# EAGLE library part MODULE_ESP32_MYV (library ESP32-DEVKITC-32D)
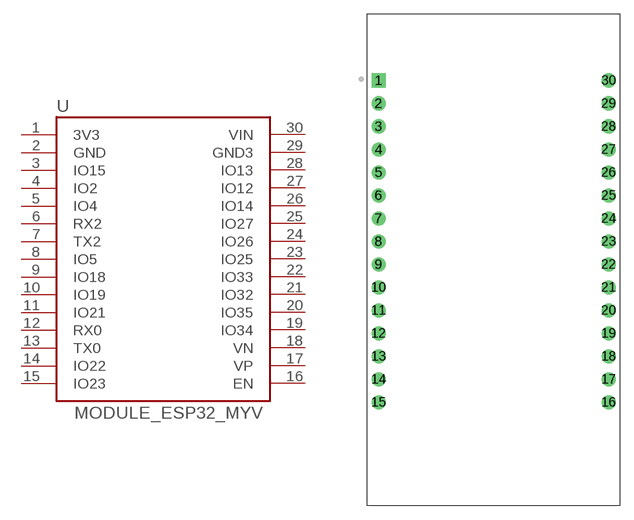
[diagram p0: symbol with the pads of MODULE_ESP32-DEVKITC-MYV; footprint MODULE_ESP32-DEVKITC-MYV]

Designator prefix -

## MODULE_ESP32_MYV  [MODULE_ESP32-DEVKITC-MYV]
1  3V3  pwr
2  GND  in
3  IO15  in
4  IO2  in
5  IO4
6  RX2
7  TX2
8  IO5
9  IO18
10  IO19
11  IO21
12  RX0
13  TX0
14  IO22
15  IO23
16  EN
17  VP
18  VN
19  IO34
20  IO35
21  IO32
22  IO33
23  IO25
24  IO26
25  IO27
26  IO14  in
27  IO12
28  IO13
29  GND3  pwr
30  VIN  pwr

## Footprint MODULE_ESP32-DEVKITC-MYV (pad centres in mm)
HH
drill 1.04 square: 1 -12.7,19.76
drill 1.04: 2 -12.7,17.22; 3 -12.7,14.68; 4 -12.7,12.14; 5 -12.7,9.6; 6 -12.7,7.06; 7 -12.7,4.52; 8 -12.7,1.98; 9 -12.7,-0.56; 10 -12.7,-3.1; 11 -12.7,-5.64; 12 -12.7,-8.18; 13 -12.7,-10.72; 14 -12.7,-13.26; 15 -12.7,-15.8; 16 12.7,-15.8; 17 12.7,-13.26; 18 12.7,-10.72; 19 12.7,-8.18; 20 12.7,-5.64; 21 12.7,-3.1; 22 12.7,-0.56; 23 12.7,1.98; 24 12.7,4.52; 25 12.7,7.06; 26 12.7,9.6; 27 12.7,12.14; 28 12.7,14.68; 29 12.7,17.22; 30 12.7,19.76